# EAGLE library part USB2512B-AEZG (library usb3300)
IC, 2-PORT USB 2.0 HUB CONTRL, 36VQFN
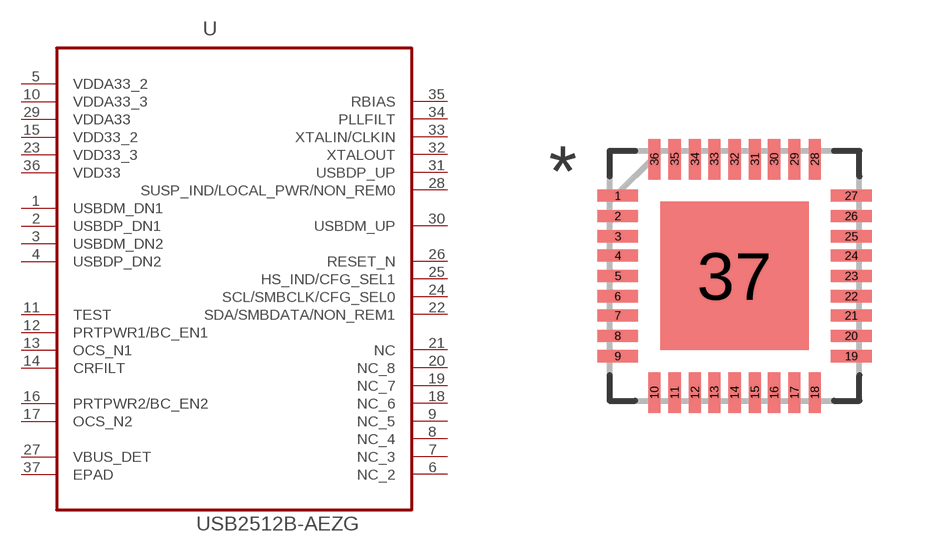
[diagram p1: symbol with the pads of QFN50P600X600X100-37N; footprint QFN50P600X600X100-37N]

Designator prefix U

## USB2512B-AEZG (MPN: USB2512B-AEZG; OC_FARNELL: 2292602; OC_NEWARK: 66W2135; PACKAGE: 36VQFN; SUPPLIER: Microchip)  [QFN50P600X600X100-37N]
1  USBDM_DN1  pas
2  USBDP_DN1  pas
3  USBDM_DN2  pas
4  USBDP_DN2  pas
5  VDDA33_2  pwr
6  NC_2  nc
7  NC_3  nc
8  NC_4  nc
9  NC_5  nc
10  VDDA33_3  pwr
11  TEST  pas
12  PRTPWR1/BC_EN1  pas
13  OCS_N1  pas
14  CRFILT  pas
15  VDD33_2  pwr
16  PRTPWR2/BC_EN2  pas
17  OCS_N2  pas
18  NC_6  nc
19  NC_7  nc
20  NC_8  nc
21  NC  nc
22  SDA/SMBDATA/NON_REM1  pas
23  VDD33_3  pwr
24  SCL/SMBCLK/CFG_SEL0  pas
25  HS_IND/CFG_SEL1  pas
26  RESET_N  pas
27  VBUS_DET  pwr
28  SUSP_IND/LOCAL_PWR/NON_REM0  pas
29  VDDA33  pwr
30  USBDM_UP  pas
31  USBDP_UP  pas
32  XTALOUT  pas
33  XTALIN/CLKIN  pas
34  PLLFILT  pas
35  RBIAS  pas
36  VDD33  pwr
37  EPAD  pas

## Footprint QFN50P600X600X100-37N (pad centres in mm)
smd 1.016 x 0.305: 1 -2.921,2.007; 2 -2.921,1.499; 3 -2.921,0.991; 4 -2.921,0.508; 5 -2.921,0; 6 -2.921,-0.508; 7 -2.921,-0.991; 8 -2.921,-1.499; 9 -2.921,-2.007; 19 2.921,-2.007; 20 2.921,-1.499; 21 2.921,-0.991; 22 2.921,-0.508; 23 2.921,0; 24 2.921,0.508; 25 2.921,0.991; 26 2.921,1.499; 27 2.921,2.007
smd 0.305 x 1.016: 10 -2.007,-2.921; 11 -1.499,-2.921; 12 -0.991,-2.921; 13 -0.508,-2.921; 14 0,-2.921; 15 0.508,-2.921; 16 0.991,-2.921; 17 1.499,-2.921; 18 2.007,-2.921; 28 2.007,2.921; 29 1.499,2.921; 30 0.991,2.921; 31 0.508,2.921; 32 0,2.921; 33 -0.508,2.921; 34 -0.991,2.921; 35 -1.499,2.921; 36 -2.007,2.921
smd 3.708 x 3.708: 37 0,0